# Altium schematic symbol library 74HC04.Schlib: 1 symbol
Pins are listed as number, name and electrical type; pins without a type are passive.

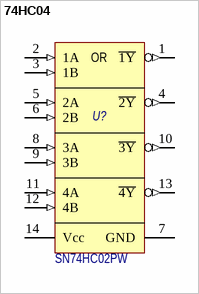
[diagram p0: symbol 74HC04]

## 74HC04
designator U?, comment SN74HC02PW
Quadruple 2-Input Positive-NOR Gates; Потребление, Вт: 0,001; Назначение: Quadruple 2-Input Positive-NOR Gates; Наименование: SN74HC02PW
footprint TSSOP-14 (TSSOP 14-pin 5.1x4.5mm)
pins: 1 ~{1Y} (out), 2 1A (in), 3 1B (in), 4 ~{2Y} (out), 5 2A (in), 6 2B (in), 7 GND (power), 8 3A (in), 9 3B (in), 10 ~{3Y} (out), 11 4A (in), 12 4B (in), 13 ~{4Y} (out), 14 Vcc (power)
text: OR